# EAGLE library part WE-HV-LAN-TRANSFORMER-10/100/1000BT-749024012 (library Wurth_Elektronik_Passive_rev16c)
WE-LAN HV LAN-Transformer Characteristics: •Compliant with IEEE802.3 and 802.3af standards •Operating temperature: 0 °C to +70 °C •SMD •4 kV Hipot test Applications: •Ethernet •Compliant with most IC's for Ethernet applications like Intel, AMD, Conexant, Realtek, etc. •Hub, Router, Switches, medical applications <http://katalog.we-online.de/media/images/eisos/UtLAN_pf2.jpg> Details see: http://katalog.we-online.de/en/pbs/WE-LAN/749024012? Updated by Dan Xu 2014-07-08 2014 (C) Würth Elektronik
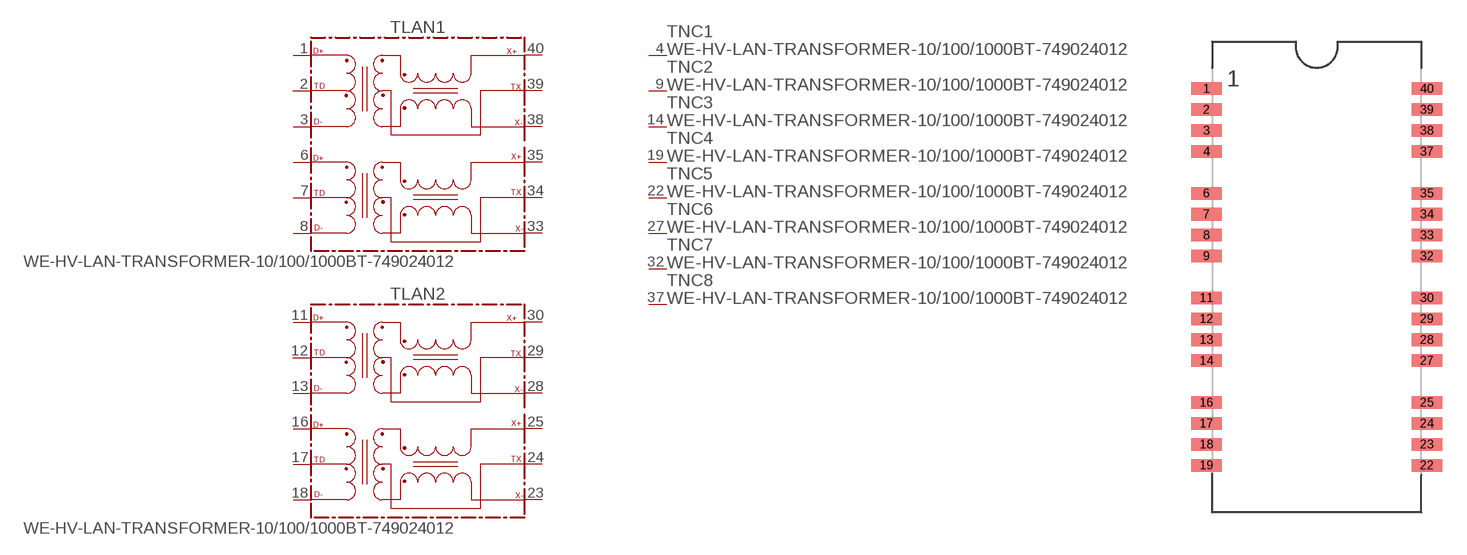
[diagram p103: symbol with the pads of 749024012; footprint 749024012]

Designator prefix T; gates LAN1=749024012 LAN2=749024012 NC1=NC NC2=NC NC3=NC NC4=NC NC5=NC NC6=NC NC7=NC NC8=NC

## WE-HV-LAN-TRANSFORMER-10/100/1000BT-749024012 (COMPANY-URL: http://www.we-online.de; CREATED-BY: Christin Zierenner; CREATED-DATE: July 2012; DATASHEET-URL: http://katalog.we-online.de/kataloge/eisos/media/pdf/749024012.pdf; MANUFACTURER: Würth Elektronik eiSos GmbH)  [749024012]
1  LAN1:D+
2  LAN1:TD
3  LAN1:D-
4  NC1:NC  nc
6  LAN1:D1+
7  LAN1:TD1
8  LAN1:D1-
9  NC2:NC  nc
11  LAN2:D+
12  LAN2:TD
13  LAN2:D-
14  NC3:NC  nc
16  LAN2:D1+
17  LAN2:TD1
18  LAN2:D1-
19  NC4:NC  nc
22  NC5:NC  nc
23  LAN2:X1-
24  LAN2:TX1
25  LAN2:X1+
27  NC6:NC  nc
28  LAN2:X-
29  LAN2:TX
30  LAN2:X+
32  NC7:NC  nc
33  LAN1:X1-
34  LAN1:TX1
35  LAN1:X1+
37  NC8:NC  nc
38  LAN1:X-
39  LAN1:TX
40  LAN1:X+

## Footprint 749024012 (pad centres in mm)
MAX Height=12.70 mm
smd 1.86 x 0.76: 1 -6.69,11.43; 2 -6.69,10.16; 3 -6.69,8.89; 4 -6.69,7.62; 6 -6.69,5.08; 7 -6.69,3.81; 8 -6.69,2.54; 9 -6.69,1.27; 11 -6.69,-1.27; 12 -6.69,-2.54; 13 -6.69,-3.81; 14 -6.69,-5.08; 16 -6.69,-7.62; 17 -6.69,-8.89; 18 -6.69,-10.16; 19 -6.69,-11.43; 22 6.69,-11.43; 23 6.69,-10.16; 24 6.69,-8.89; 25 6.69,-7.62; 27 6.69,-5.08; 28 6.69,-3.81; 29 6.69,-2.54; 30 6.69,-1.27; 32 6.69,1.27; 33 6.69,2.54; 34 6.69,3.81; 35 6.69,5.08; 37 6.69,7.62; 38 6.69,8.89; 39 6.69,10.16; 40 6.69,11.43